# Altium footprint library Батареи.PcbLib: 4 footprints
Each footprint in its own frame and in the unit in brackets; x right, y up, seen from the top. Pads: shape width x height; smd on the part's side, far side on the other; paste and mask are expansions set on the pad; w line width, h text height; cw(c..) or ccw(c..) is an arc to the next point about the centre after c.
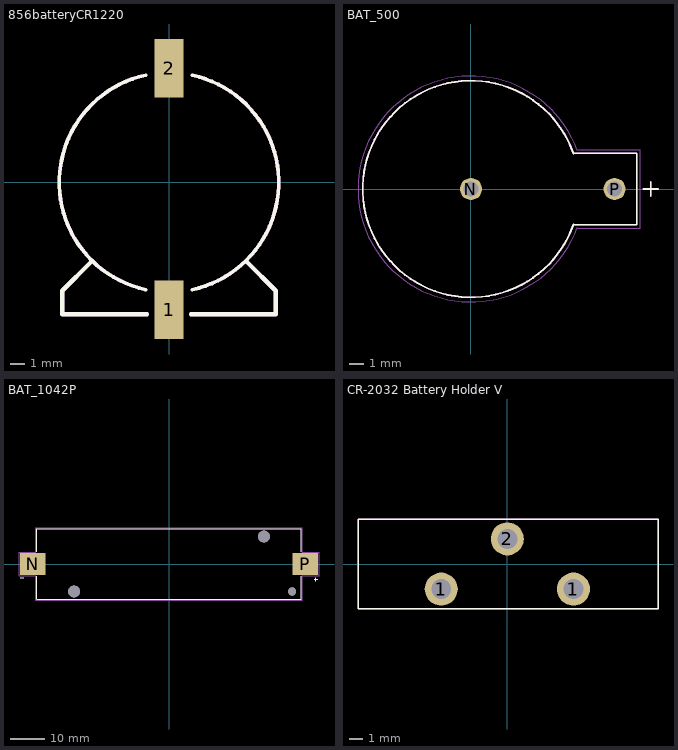
[diagram p0: the footprints below, top view; thin cyan lines are the x and y axes]

## 856batteryCR1220 [mm]
pads (2):
  rect 2x4 smd: 1(0,-8.7) 2(0,7.8)
Top Overlay:
  lines w0.254: -1.606,-7.326 cw(c0,0) -1.585,7.331 ; 1.585,-7.331 ccw(c0,0) 1.606,7.326
  lines w0.3: -5.3,-5.4 -7.3,-7.4 -7.3,-9 -1.5,-9 ; 1.5,-9 7.3,-9 7.3,-7.8 7.3,-7.4 5.3,-5.4
TopAssy:
  lines w0.254: -1.606,-7.326 cw(c0,0) -1.585,7.331 ; 1.585,-7.331 ccw(c0,0) 1.606,7.326
  lines w0.3: -5.3,-5.4 -7.3,-7.4 -7.3,-9 -1.5,-9 ; 1.5,-9 7.3,-9 7.3,-7.8 7.3,-7.4 5.3,-5.4
  text ".Designator" at -2.9,-0.6 h1.52
3D body "Battery holder -s8411-45r_asm.STEP": height 4.35, standoff -0.9, extent -7.374,-10.3 7.375,8.901

## BAT_500 [mm]
height 7.11
pads (2):
  round 1.53 hole 1.02: N(0,0) P(9.98,0)
Top Overlay:
  lines w0.127: 7.11,-2.49 11.52,-2.49 11.52,2.49 7.11,2.49 ; 7.123,-2.452 cw(c0.004,0) 7.123,2.452 ; 12,0 13,0 ; 12.5,-0.5 12.5,0.5
TopAssy:
  lines w0.127: 7.11,-2.49 11.52,-2.49 11.52,2.49 7.11,2.49 ; 7.123,-2.452 cw(c0.004,0) 7.123,2.452 ; 12,0 13,0 ; 12.5,-0.5 12.5,0.5
  text ".Designator" at -3,-0.5 h1.52
Mechanical 13:
  lines w0.127: 7.11,-2.49 11.52,-2.49 11.52,2.49 7.11,2.49 ; 7.123,-2.452 cw(c0.004,0) 7.123,2.452 ; 12,0 13,0 ; 12.5,-0.5 12.5,0.5
Mechanical 15:
  lines w0.05: 7.36,-2.74 11.77,-2.74 11.77,2.74 7.36,2.74 ; 7.38,-2.686 cw(c0,0) 7.38,2.686
3D body "step_temp.STEP": height 7.06, standoff -3.98, extent -7.531,-7.53 11.519,7.53

## BAT_1042P [mm]
height 15.11
pads (5):
  rect 7.46x6.47 smd: N(-39.67,0) P(39.67,0)
  round 3.45 hole 3.45 unplated: ""(-27.6,-8) ""(27.6,8)
  round 2.39 hole 2.39 unplated: ""(35.82,-8)
Top Overlay:
  lines w0.127: -43.25,-4 -42.25,-4 ; -38.525,-3.55 -38.525,-10.325 38.525,-10.325 38.525,-3.55 ; -38.525,3.55 -38.525,10.325 38.525,10.325 38.525,3.55 ; 42.25,-4.5 43.25,-4.5 ; 42.75,-5 42.75,-4
Mechanical 15:
  lines w0.05: -43.65,-3.485 -43.65,3.485 -38.775,3.485 -38.775,10.575 38.775,10.575 38.775,3.485 43.65,3.485 43.65,-3.485 38.775,-3.485 38.775,-10.575 -38.775,-10.575 -38.775,-3.485 -43.65,-3.485
3D body "1042P.step": height 14.86, standoff -3.43, extent -43.204,-10.425 42.8,10.225

## CR-2032 Battery Holder V [mm]
pads (3):
  round 2.5 hole 1.5: 1(-5,-1.9) 1(5,-1.9) 2(0,1.9)
Top Overlay:
  lines w0.1: -11.3,-3.4 11.4,-3.4 11.4,3.4 -11.3,3.4 -11.3,-3.4
TopAssy:
  lines w0.1: -11.3,-3.4 -11.3,3.4 11.4,3.4 11.4,-3.4 -11.3,-3.4
  text ".Designator" at -0.4,-0.5 h1.52
3D body "Battery holder CR 2032.step": height 18.2, standoff -2.9, extent -11.249,-3.2 11.25,3.2